# EAGLE library part CYPHER2022 (library CYPHER)
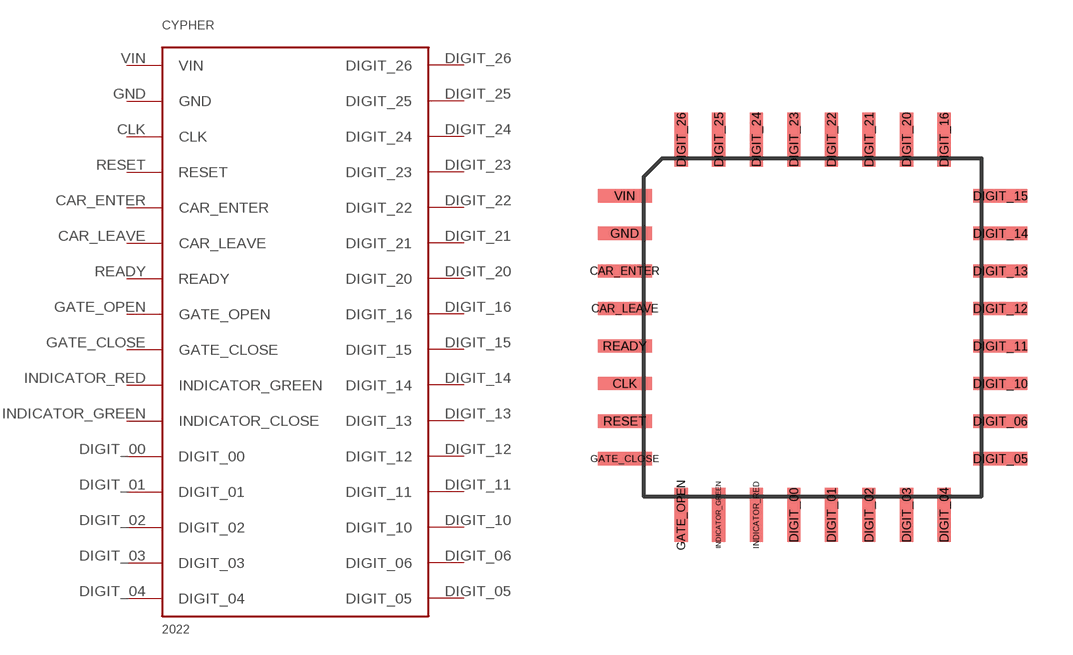
[diagram p0: symbol with the pads of CYPHER; footprint CYPHER]

Designator prefix -

## CYPHER2022  [CYPHER]
CAR_ENTER  CAR_ENTER
CAR_LEAVE  CAR_LEAVE
CLK  CLK
DIGIT_00  DIGIT_00
DIGIT_01  DIGIT_01
DIGIT_02  DIGIT_02
DIGIT_03  DIGIT_03
DIGIT_04  DIGIT_04
DIGIT_05  DIGIT_05
DIGIT_06  DIGIT_06
DIGIT_10  DIGIT_10
DIGIT_11  DIGIT_11
DIGIT_12  DIGIT_12
DIGIT_13  DIGIT_13
DIGIT_14  DIGIT_14
DIGIT_15  DIGIT_15
DIGIT_16  DIGIT_16
DIGIT_20  DIGIT_20
DIGIT_21  DIGIT_21
DIGIT_22  DIGIT_22
DIGIT_23  DIGIT_23
DIGIT_24  DIGIT_24
DIGIT_25  DIGIT_25
DIGIT_26  DIGIT_26
GATE_CLOSE  GATE_CLOSE
GATE_OPEN  GATE_OPEN
GND  GND
INDICATOR_GREEN  INDICATOR_CLOSE
INDICATOR_RED  INDICATOR_GREEN
READY  READY
RESET  RESET
VIN  VIN

## Footprint CYPHER (pad centres in mm)
smd 1.8 x 0.44: CAR_ENTER -6.25,1.875; CAR_LEAVE -6.25,0.625; CLK -6.25,-1.875; DIGIT_05 6.25,-4.375; DIGIT_06 6.25,-3.125; DIGIT_10 6.25,-1.875; DIGIT_11 6.25,-0.625; DIGIT_12 6.25,0.625; DIGIT_13 6.25,1.875; DIGIT_14 6.25,3.125; DIGIT_15 6.25,4.375; GATE_CLOSE -6.25,-4.375; GND -6.25,3.125; READY -6.25,-0.625; RESET -6.25,-3.125; VIN -6.25,4.375
smd 0.44 x 1.8: DIGIT_00 -0.625,-6.25; DIGIT_01 0.625,-6.25; DIGIT_02 1.875,-6.25; DIGIT_03 3.125,-6.25; DIGIT_04 4.375,-6.25; DIGIT_16 4.375,6.25; DIGIT_20 3.125,6.25; DIGIT_21 1.875,6.25; DIGIT_22 0.625,6.25; DIGIT_23 -0.625,6.25; DIGIT_24 -1.875,6.25; DIGIT_25 -3.125,6.25; DIGIT_26 -4.375,6.25; GATE_OPEN -4.375,-6.25; INDICATOR_GREEN -3.125,-6.25; INDICATOR_RED -1.875,-6.25